# Altium schematic symbol library AXP.SchLib: 2 symbols
Pins are listed as number, name and electrical type; pins without a type are passive.

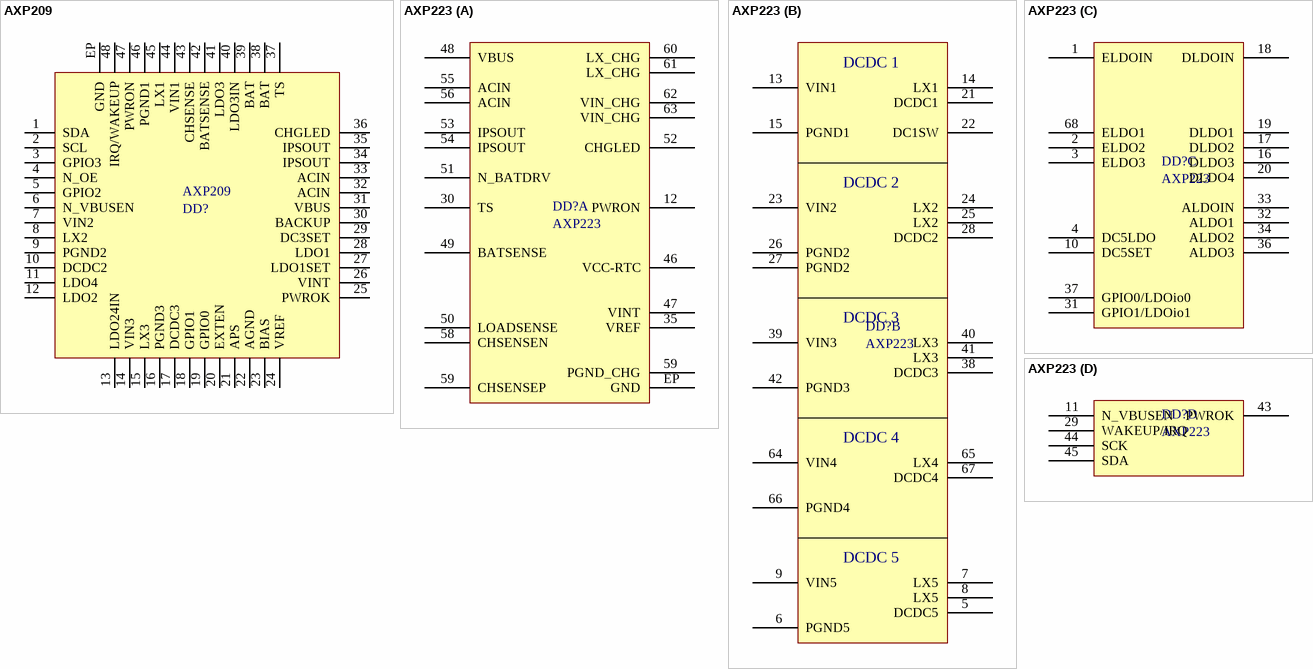
[diagram p0: symbols AXP209 to AXP223]

## AXP209
designator AXP209, comment DD?
PMIC for ARM Cortex-A
footprint QFN-48_6x6
pins: 1 SDA, 2 SCL, 3 GPIO3, 4 N_OE, 5 GPIO2, 6 N_VBUSEN, 7 VIN2, 8 LX2, 9 PGND2, 10 DCDC2, 11 LDO4, 12 LDO2, 13 LDO24IN, 14 VIN3, 15 LX3, 16 PGND3, 17 DCDC3, 18 GPIO1, 19 GPIO0, 20 EXTEN, 21 APS, 22 AGND, 23 BIAS, 24 VREF, 25 PWROK, 26 VINT, 27 LDO1SET, 28 LDO1, 29 DC3SET, 30 BACKUP, 31 VBUS, 32 ACIN, 33 ACIN, 34 IPSOUT, 35 IPSOUT, 36 CHGLED, 37 TS, 38 BAT, 39 BAT, 40 LDO3IN, 41 LDO3, 42 BATSENSE, 43 CHSENSE, 44 VIN1, 45 LX1, 46 PGND1, 47 PWRON, 48 IRQ/WAKEUP, EP GND

## AXP223
designator DD?
Power supply for multi-core systems
footprint QFN-68
part A pins: 12 PWRON, 30 TS, 35 VREF, 46 VCC-RTC, 47 VINT, 48 VBUS, 49 BATSENSE, 50 LOADSENSE, 51 N_BATDRV, 52 CHGLED, 53 IPSOUT, 54 IPSOUT, 55 ACIN, 56 ACIN, 58 CHSENSEN, 59 CHSENSEP, 59 PGND_CHG, 60 LX_CHG, 61 LX_CHG, 62 VIN_CHG, 63 VIN_CHG, EP GND
part B pins: 5 DCDC5, 6 PGND5, 7 LX5, 8 LX5, 9 VIN5, 13 VIN1, 14 LX1, 15 PGND1, 21 DCDC1, 22 DC1SW, 23 VIN2, 24 LX2, 25 LX2, 26 PGND2, 27 PGND2, 28 DCDC2, 38 DCDC3, 39 VIN3, 40 LX3, 41 LX3, 42 PGND3, 64 VIN4, 65 LX4, 66 PGND4, 67 DCDC4
part C pins: 1 ELDOIN, 2 ELDO2, 3 ELDO3, 4 DC5LDO, 10 DC5SET, 16 DLDO3, 17 DLDO2, 18 DLDOIN, 19 DLDO1, 20 DLDO4, 31 GPIO1/LDOio1, 32 ALDO1, 33 ALDOIN, 34 ALDO2, 36 ALDO3, 37 GPIO0/LDOio0, 68 ELDO1
part D pins: 11 N_VBUSEN, 29 WAKEUP/IRQ, 43 PWROK, 44 SCK, 45 SDA
part B text: DCDC 1; DCDC 2; DCDC 3; DCDC 4; DCDC 5